# Altium footprint library DF01S.PcbLib: 1 footprints
Each footprint in its own frame and in the unit in brackets; x right, y up, seen from the top. Pads: shape width x height; smd on the part's side, far side on the other; paste and mask are expansions set on the pad; w line width, h text height; cw(c..) or ccw(c..) is an arc to the next point about the centre after c.
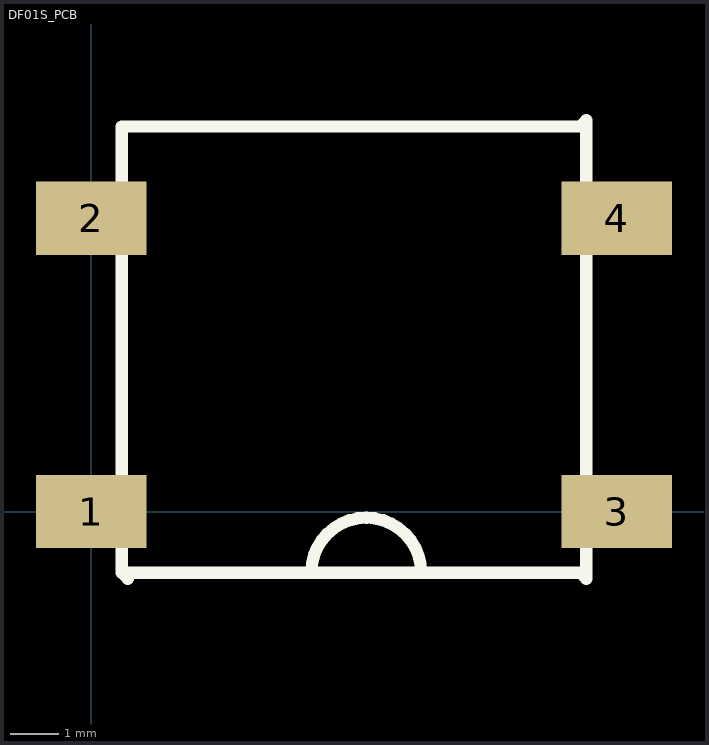
[diagram p0: the footprint, top view; thin cyan lines are the x and y axes]

## DF01S_PCB [mil] "Likeretterbro"
pads (4):
  rect 90.55x60 all layers, no hole: 1(0,0) 2(0,240) 3(430,0) 4(430,240)
Top Overlay:
  lines w10: 30,-55 25,-50 ; 180,-50 cw(c225,-50) 225,-5 cw(c225,-50) 270,-50 ; 25,-50 25,315 400,315 405,320 405,-55 400,-50 25,-50
3D body: height 157.48, standoff 39.37, extent 25,-50 405,320